# Altium schematic symbol library SCH - POWER - LINEAR VREG - TI LP2953AIM.SchLib: 1 symbol
Pins are listed as number, name and electrical type; pins without a type are passive.

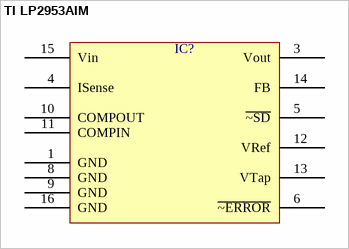
[diagram p0: symbol TI LP2953AIM]

## TI LP2953AIM
designator IC?  (value not drawn)
pins: 1 GND, 3 Vout, 4 ISense, 5 ~{~SD}, 6 ~{~ERROR}, 8 GND, 9 GND, 10 COMPOUT, 11 COMPIN, 12 VRef, 13 VTap, 14 FB, 15 Vin, 16 GND